# Altium footprint library CMT-8540S-SMT.PcbLib: 1 footprints
Each footprint in its own frame and in the unit in brackets; x right, y up, seen from the top. Pads: shape width x height; smd on the part's side, far side on the other; paste and mask are expansions set on the pad; w line width, h text height; cw(c..) or ccw(c..) is an arc to the next point about the centre after c.
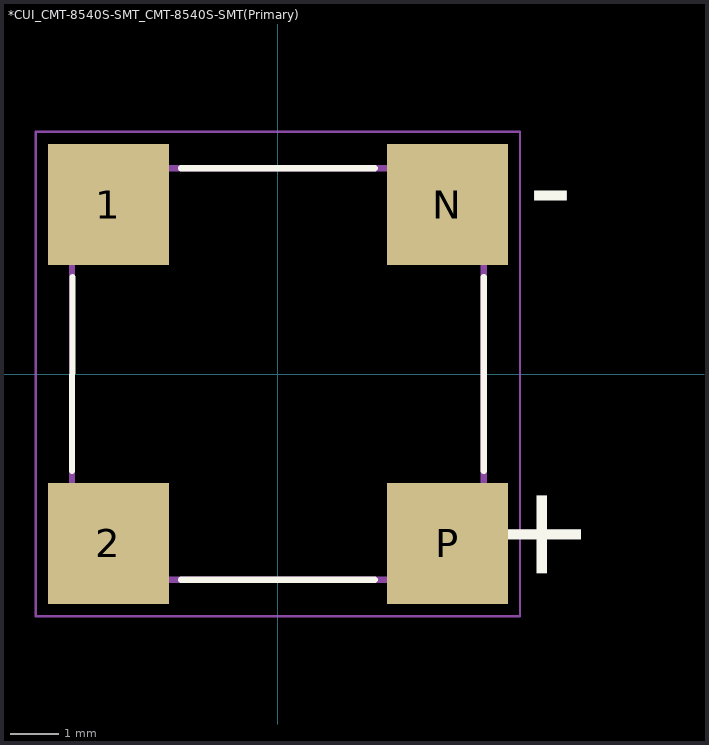
[diagram p0: the footprint, top view; thin cyan lines are the x and y axes]

## *CUI_CMT-8540S-SMT_CMT-8540S-SMT(Primary) [mm]
pads (4):
  rect 2.5x2.5 smd: 1(-3.5,3.5) 2(-3.5,-3.5) N(3.5,3.5) P(3.5,-3.5)
Top Overlay:
  lines w0.127: -4.25,-2 -4.24,2 ; -2,-4.25 2,-4.25 ; -2,4.25 2,4.25 ; 4.25,-2 4.25,2
  text "-" at 5.167,2.974 h1.88
  text "+" at 6.268,-4.392 h1.88
Mechanical 4:
  lines w0.127: -4.25,-4.25 4.25,-4.25 ; -4.25,-4.25 -4.25,4.25 ; -4.25,-4.25 4.25,-4.25 ; -4.25,-4.25 -4.25,4.25 ; -4.25,4.25 4.25,4.25 ; -4.25,4.25 4.25,4.25 ; 4.25,-4.25 4.25,4.25 ; 4.25,-4.25 4.25,4.25
Mechanical 16:
  lines w0.05: -5,-5 5,-5 5,5 -5,5 -5,-5